# EAGLE library part AD5754 (library jhbruhn-dac)
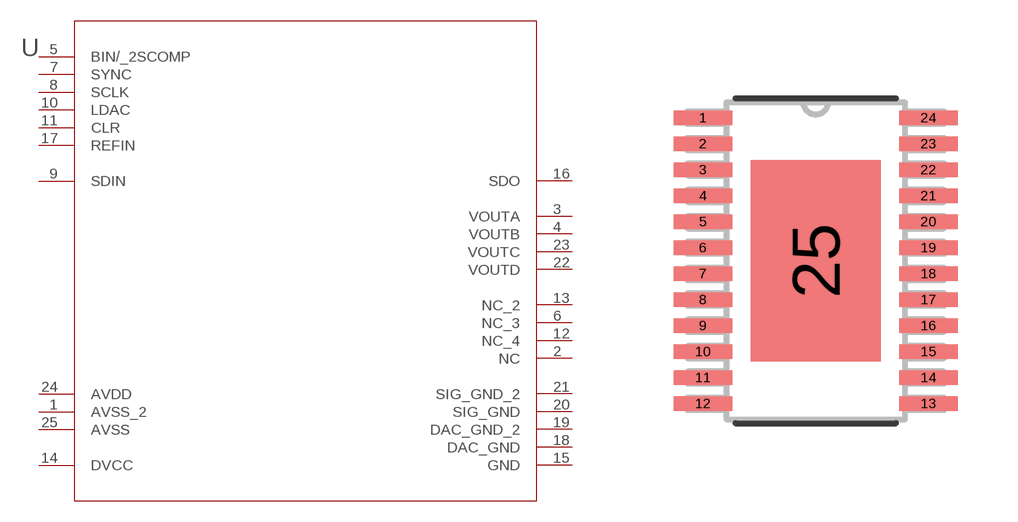
[diagram p3: symbol with the pads of RE_24; footprint RE_24]

Designator prefix U

## AD5754 (MANUFACTURER_PART_NUMBER: AD5754BREZ; VENDOR: Vendor)  [RE_24]
1  AVSS_2  pas
2  NC  pas
3  VOUTA  pas
4  VOUTB  pas
5  BIN/_2SCOMP  pas
6  NC_3  pas
7  SYNC  pas
8  SCLK  pas
9  SDIN  pas
10  LDAC  pas
11  CLR  pas
12  NC_4  pas
13  NC_2  pas
14  DVCC  pwr
15  GND  pas
16  SDO  pas
17  REFIN  pas
18  DAC_GND  pas
19  DAC_GND_2  pas
20  SIG_GND  pas
21  SIG_GND_2  pas
22  VOUTD  pas
23  VOUTC  pas
24  AVDD  pwr
25  AVSS  pwr

## Footprint RE_24 (pad centres in mm)
smd 1.473 x 0.356: 1 -2.819,3.575; 2 -2.819,2.925; 3 -2.819,2.275; 4 -2.819,1.625; 5 -2.819,0.975; 6 -2.819,0.325; 7 -2.819,-0.325; 8 -2.819,-0.975; 9 -2.819,-1.625; 10 -2.819,-2.275; 11 -2.819,-2.925; 12 -2.819,-3.575; 13 2.819,-3.575; 14 2.819,-2.925; 15 2.819,-2.275; 16 2.819,-1.625; 17 2.819,-0.975; 18 2.819,-0.325; 19 2.819,0.325; 20 2.819,0.975; 21 2.819,1.625; 22 2.819,2.275; 23 2.819,2.925; 24 2.819,3.575
smd 3.251 x 5.029: 25 0,0